# Altium integrated library National Semiconductor LDO.IntLib: 2675 symbols (part 51 of 65)
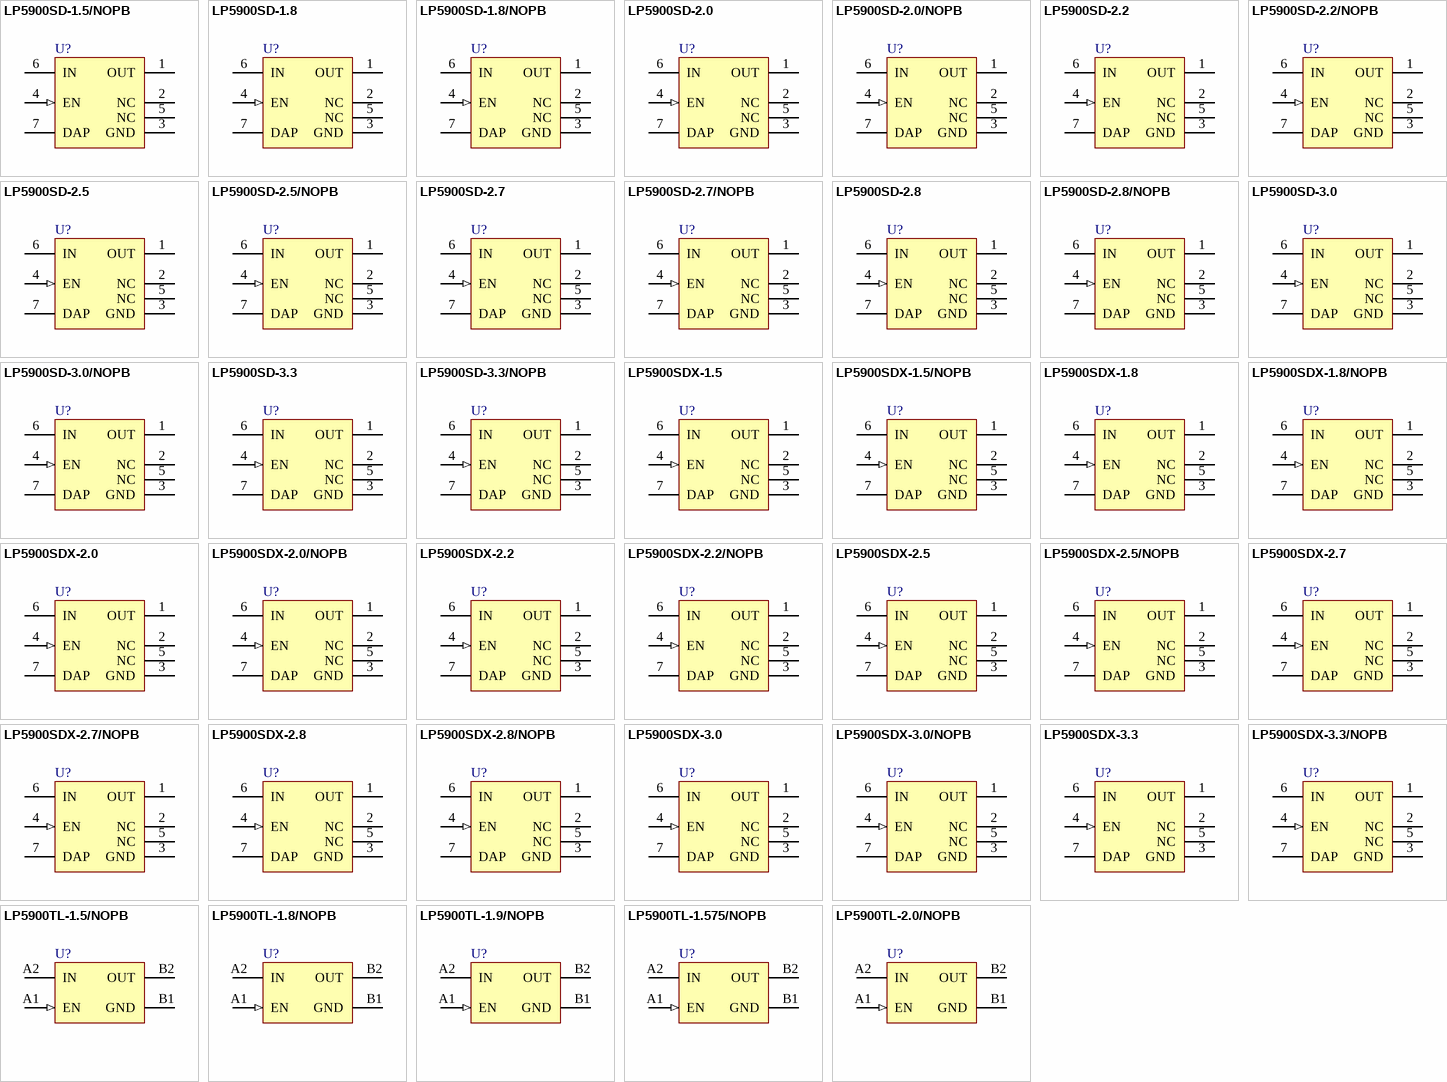
[diagram p117: symbols LP5900SD-1.5/NOPB to LP5900TL-2.0/NOPB]

## LP5900SD-2.7/NOPB
designator U?
Ultra Low Noise, 150mA Linear Regulator for RF/Analog Circuits Requires No Bypass Capacitor, 6-pin LLP, Pb-Free; PartNumber: LP5900SD-2.7/NOPB; Manufacturer: National Semiconductor; PackageTopMarking: XTT*L14; PowerWise: N; CompType: LDO IC; High-Reliability: Y; DatasheetVersion: Jul-2010; PackageVersion: revA, Nov-2003; PackageReference: SDB06A; PackageDescription: LLP, Plastic, Dual, 2.2 x 2.5 x 0.8mm Body, 6 Lead, 0.65mm Pitch, No Pullback; RoHS: Y; PinCount: 6; ComponentLink1Description: Manufacturer URL; ComponentLink1URL: http://www.national.com/; ComponentLink2Description: LP5900 Datasheet; ComponentLink2URL: http://www.national.com/ds/LP/LP5900.pdf; ComponentLink3Description: LP5900 Web Page; ComponentLink3URL: http://www.national.com/pf/LP/LP5900.html; ComponentLink4Description: SDB06A Package Page; ComponentLink4URL: http://www.national.com/packaging/folders/sdb06a.html
footprint SDB06A (SON, 6-Leads, Body 2.2x2.5mm, Pitch 0.65mm, NSC Recommended (SC-70 Land))
pins: 1 OUT (power), 2 NC, 3 GND (power), 4 EN (in), 5 NC, 6 IN (power), 7 DAP (power)

## LP5900SD-2.8
designator U?
Ultra Low Noise, 150mA Linear Regulator for RF/Analog Circuits Requires No Bypass Capacitor, 6-pin LLP; PartNumber: LP5900SD-2.8; Manufacturer: National Semiconductor; PackageTopMarking: XTT*L12; PowerWise: N; CompType: LDO IC; High-Reliability: Y; DatasheetVersion: Jul-2010; PackageVersion: revA, Nov-2003; PackageReference: SDB06A; PackageDescription: LLP, Plastic, Dual, 2.2 x 2.5 x 0.8mm Body, 6 Lead, 0.65mm Pitch, No Pullback; RoHS: N; PinCount: 6; ComponentLink1Description: Manufacturer URL; ComponentLink1URL: http://www.national.com/; ComponentLink2Description: LP5900 Datasheet; ComponentLink2URL: http://www.national.com/ds/LP/LP5900.pdf; ComponentLink3Description: LP5900 Web Page; ComponentLink3URL: http://www.national.com/pf/LP/LP5900.html; ComponentLink4Description: SDB06A Package Page; ComponentLink4URL: http://www.national.com/packaging/folders/sdb06a.html
footprint SDB06A (SON, 6-Leads, Body 2.2x2.5mm, Pitch 0.65mm, NSC Recommended (SC-70 Land))
pins: 1 OUT (power), 2 NC, 3 GND (power), 4 EN (in), 5 NC, 6 IN (power), 7 DAP (power)

## LP5900SD-2.8/NOPB
designator U?
Ultra Low Noise, 150mA Linear Regulator for RF/Analog Circuits Requires No Bypass Capacitor, 6-pin LLP, Pb-Free; PartNumber: LP5900SD-2.8/NOPB; Manufacturer: National Semiconductor; PackageTopMarking: XTT*L12; PowerWise: N; CompType: LDO IC; High-Reliability: Y; DatasheetVersion: Jul-2010; PackageVersion: revA, Nov-2003; PackageReference: SDB06A; PackageDescription: LLP, Plastic, Dual, 2.2 x 2.5 x 0.8mm Body, 6 Lead, 0.65mm Pitch, No Pullback; RoHS: Y; PinCount: 6; ComponentLink1Description: Manufacturer URL; ComponentLink1URL: http://www.national.com/; ComponentLink2Description: LP5900 Datasheet; ComponentLink2URL: http://www.national.com/ds/LP/LP5900.pdf; ComponentLink3Description: LP5900 Web Page; ComponentLink3URL: http://www.national.com/pf/LP/LP5900.html; ComponentLink4Description: SDB06A Package Page; ComponentLink4URL: http://www.national.com/packaging/folders/sdb06a.html
footprint SDB06A (SON, 6-Leads, Body 2.2x2.5mm, Pitch 0.65mm, NSC Recommended (SC-70 Land))
pins: 1 OUT (power), 2 NC, 3 GND (power), 4 EN (in), 5 NC, 6 IN (power), 7 DAP (power)

## LP5900SD-3.0
designator U?
Ultra Low Noise, 150mA Linear Regulator for RF/Analog Circuits Requires No Bypass Capacitor, 6-pin LLP; PartNumber: LP5900SD-3.0; Manufacturer: National Semiconductor; PackageTopMarking: XTT*L20; PowerWise: N; CompType: LDO IC; High-Reliability: Y; DatasheetVersion: Jul-2010; PackageVersion: revA, Nov-2003; PackageReference: SDB06A; PackageDescription: LLP, Plastic, Dual, 2.2 x 2.5 x 0.8mm Body, 6 Lead, 0.65mm Pitch, No Pullback; RoHS: Y; PinCount: 6; ComponentLink1Description: Manufacturer URL; ComponentLink1URL: http://www.national.com/; ComponentLink2Description: LP5900 Datasheet; ComponentLink2URL: http://www.national.com/ds/LP/LP5900.pdf; ComponentLink3Description: LP5900 Web Page; ComponentLink3URL: http://www.national.com/pf/LP/LP5900.html; ComponentLink4Description: SDB06A Package Page; ComponentLink4URL: http://www.national.com/packaging/folders/sdb06a.html
footprint SDB06A (SON, 6-Leads, Body 2.2x2.5mm, Pitch 0.65mm, NSC Recommended (SC-70 Land))
pins: 1 OUT (power), 2 NC, 3 GND (power), 4 EN (in), 5 NC, 6 IN (power), 7 DAP (power)

## LP5900SD-3.0/NOPB
designator U?
Ultra Low Noise, 150mA Linear Regulator for RF/Analog Circuits Requires No Bypass Capacitor, 6-pin LLP, Pb-Free; PartNumber: LP5900SD-3.0/NOPB; Manufacturer: National Semiconductor; PackageTopMarking: XTT*L20; PowerWise: N; CompType: LDO IC; High-Reliability: Y; DatasheetVersion: Jul-2010; PackageVersion: revA, Nov-2003; PackageReference: SDB06A; PackageDescription: LLP, Plastic, Dual, 2.2 x 2.5 x 0.8mm Body, 6 Lead, 0.65mm Pitch, No Pullback; RoHS: Y; PinCount: 6; ComponentLink1Description: Manufacturer URL; ComponentLink1URL: http://www.national.com/; ComponentLink2Description: LP5900 Datasheet; ComponentLink2URL: http://www.national.com/ds/LP/LP5900.pdf; ComponentLink3Description: LP5900 Web Page; ComponentLink3URL: http://www.national.com/pf/LP/LP5900.html; ComponentLink4Description: SDB06A Package Page; ComponentLink4URL: http://www.national.com/packaging/folders/sdb06a.html
footprint SDB06A (SON, 6-Leads, Body 2.2x2.5mm, Pitch 0.65mm, NSC Recommended (SC-70 Land))
pins: 1 OUT (power), 2 NC, 3 GND (power), 4 EN (in), 5 NC, 6 IN (power), 7 DAP (power)

## LP5900SD-3.3
designator U?
Ultra Low Noise, 150mA Linear Regulator for RF/Analog Circuits Requires No Bypass Capacitor, 6-pin LLP; PartNumber: LP5900SD-3.3; Manufacturer: National Semiconductor; PackageTopMarking: XTT*L16; PowerWise: N; CompType: LDO IC; High-Reliability: Y; DatasheetVersion: Jul-2010; PackageVersion: revA, Nov-2003; PackageReference: SDB06A; PackageDescription: LLP, Plastic, Dual, 2.2 x 2.5 x 0.8mm Body, 6 Lead, 0.65mm Pitch, No Pullback; RoHS: Y; PinCount: 6; ComponentLink1Description: Manufacturer URL; ComponentLink1URL: http://www.national.com/; ComponentLink2Description: LP5900 Datasheet; ComponentLink2URL: http://www.national.com/ds/LP/LP5900.pdf; ComponentLink3Description: LP5900 Web Page; ComponentLink3URL: http://www.national.com/pf/LP/LP5900.html; ComponentLink4Description: SDB06A Package Page; ComponentLink4URL: http://www.national.com/packaging/folders/sdb06a.html
footprint SDB06A (SON, 6-Leads, Body 2.2x2.5mm, Pitch 0.65mm, NSC Recommended (SC-70 Land))
pins: 1 OUT (power), 2 NC, 3 GND (power), 4 EN (in), 5 NC, 6 IN (power), 7 DAP (power)

## LP5900SD-3.3/NOPB
designator U?
Ultra Low Noise, 150mA Linear Regulator for RF/Analog Circuits Requires No Bypass Capacitor, 6-pin LLP, Pb-Free; PartNumber: LP5900SD-3.3/NOPB; Manufacturer: National Semiconductor; PackageTopMarking: XTT*L16; PowerWise: N; CompType: LDO IC; High-Reliability: Y; DatasheetVersion: Jul-2010; PackageVersion: revA, Nov-2003; PackageReference: SDB06A; PackageDescription: LLP, Plastic, Dual, 2.2 x 2.5 x 0.8mm Body, 6 Lead, 0.65mm Pitch, No Pullback; RoHS: Y; PinCount: 6; ComponentLink1Description: Manufacturer URL; ComponentLink1URL: http://www.national.com/; ComponentLink2Description: LP5900 Datasheet; ComponentLink2URL: http://www.national.com/ds/LP/LP5900.pdf; ComponentLink3Description: LP5900 Web Page; ComponentLink3URL: http://www.national.com/pf/LP/LP5900.html; ComponentLink4Description: SDB06A Package Page; ComponentLink4URL: http://www.national.com/packaging/folders/sdb06a.html
footprint SDB06A (SON, 6-Leads, Body 2.2x2.5mm, Pitch 0.65mm, NSC Recommended (SC-70 Land))
pins: 1 OUT (power), 2 NC, 3 GND (power), 4 EN (in), 5 NC, 6 IN (power), 7 DAP (power)

## LP5900SDX-1.5
designator U?
Ultra Low Noise, 150mA Linear Regulator for RF/Analog Circuits Requires No Bypass Capacitor, 6-pin LLP; PartNumber: LP5900SDX-1.5; Manufacturer: National Semiconductor; PackageTopMarking: XTT*L15; PowerWise: N; CompType: LDO IC; High-Reliability: Y; DatasheetVersion: Jul-2010; PackageVersion: revA, Nov-2003; PackageReference: SDB06A; PackageDescription: LLP, Plastic, Dual, 2.2 x 2.5 x 0.8mm Body, 6 Lead, 0.65mm Pitch, No Pullback; RoHS: N; PinCount: 6; ComponentLink1Description: Manufacturer URL; ComponentLink1URL: http://www.national.com/; ComponentLink2Description: LP5900 Datasheet; ComponentLink2URL: http://www.national.com/ds/LP/LP5900.pdf; ComponentLink3Description: LP5900 Web Page; ComponentLink3URL: http://www.national.com/pf/LP/LP5900.html; ComponentLink4Description: SDB06A Package Page; ComponentLink4URL: http://www.national.com/packaging/folders/sdb06a.html
footprint SDB06A (SON, 6-Leads, Body 2.2x2.5mm, Pitch 0.65mm, NSC Recommended (SC-70 Land))
pins: 1 OUT (power), 2 NC, 3 GND (power), 4 EN (in), 5 NC, 6 IN (power), 7 DAP (power)

## LP5900SDX-1.5/NOPB
designator U?
Ultra Low Noise, 150mA Linear Regulator for RF/Analog Circuits Requires No Bypass Capacitor, 6-pin LLP, Pb-Free; PartNumber: LP5900SDX-1.5/NOPB; Manufacturer: National Semiconductor; PackageTopMarking: XTT*L15; PowerWise: N; CompType: LDO IC; High-Reliability: Y; DatasheetVersion: Jul-2010; PackageVersion: revA, Nov-2003; PackageReference: SDB06A; PackageDescription: LLP, Plastic, Dual, 2.2 x 2.5 x 0.8mm Body, 6 Lead, 0.65mm Pitch, No Pullback; RoHS: Y; PinCount: 6; ComponentLink1Description: Manufacturer URL; ComponentLink1URL: http://www.national.com/; ComponentLink2Description: LP5900 Datasheet; ComponentLink2URL: http://www.national.com/ds/LP/LP5900.pdf; ComponentLink3Description: LP5900 Web Page; ComponentLink3URL: http://www.national.com/pf/LP/LP5900.html; ComponentLink4Description: SDB06A Package Page; ComponentLink4URL: http://www.national.com/packaging/folders/sdb06a.html
footprint SDB06A (SON, 6-Leads, Body 2.2x2.5mm, Pitch 0.65mm, NSC Recommended (SC-70 Land))
pins: 1 OUT (power), 2 NC, 3 GND (power), 4 EN (in), 5 NC, 6 IN (power), 7 DAP (power)

## LP5900SDX-1.8
designator U?
Ultra Low Noise, 150mA Linear Regulator for RF/Analog Circuits Requires No Bypass Capacitor, 6-pin LLP; PartNumber: LP5900SDX-1.8; Manufacturer: National Semiconductor; PackageTopMarking: XTT*L17; PowerWise: N; CompType: LDO IC; High-Reliability: Y; DatasheetVersion: Jul-2010; PackageVersion: revA, Nov-2003; PackageReference: SDB06A; PackageDescription: LLP, Plastic, Dual, 2.2 x 2.5 x 0.8mm Body, 6 Lead, 0.65mm Pitch, No Pullback; RoHS: N; PinCount: 6; ComponentLink1Description: Manufacturer URL; ComponentLink1URL: http://www.national.com/; ComponentLink2Description: LP5900 Datasheet; ComponentLink2URL: http://www.national.com/ds/LP/LP5900.pdf; ComponentLink3Description: LP5900 Web Page; ComponentLink3URL: http://www.national.com/pf/LP/LP5900.html; ComponentLink4Description: SDB06A Package Page; ComponentLink4URL: http://www.national.com/packaging/folders/sdb06a.html
footprint SDB06A (SON, 6-Leads, Body 2.2x2.5mm, Pitch 0.65mm, NSC Recommended (SC-70 Land))
pins: 1 OUT (power), 2 NC, 3 GND (power), 4 EN (in), 5 NC, 6 IN (power), 7 DAP (power)

## LP5900SDX-1.8/NOPB
designator U?
Ultra Low Noise, 150mA Linear Regulator for RF/Analog Circuits Requires No Bypass Capacitor, 6-pin LLP, Pb-Free; PartNumber: LP5900SDX-1.8/NOPB; Manufacturer: National Semiconductor; PackageTopMarking: XTT*L17; PowerWise: N; CompType: LDO IC; High-Reliability: Y; DatasheetVersion: Jul-2010; PackageVersion: revA, Nov-2003; PackageReference: SDB06A; PackageDescription: LLP, Plastic, Dual, 2.2 x 2.5 x 0.8mm Body, 6 Lead, 0.65mm Pitch, No Pullback; RoHS: Y; PinCount: 6; ComponentLink1Description: Manufacturer URL; ComponentLink1URL: http://www.national.com/; ComponentLink2Description: LP5900 Datasheet; ComponentLink2URL: http://www.national.com/ds/LP/LP5900.pdf; ComponentLink3Description: LP5900 Web Page; ComponentLink3URL: http://www.national.com/pf/LP/LP5900.html; ComponentLink4Description: SDB06A Package Page; ComponentLink4URL: http://www.national.com/packaging/folders/sdb06a.html
footprint SDB06A (SON, 6-Leads, Body 2.2x2.5mm, Pitch 0.65mm, NSC Recommended (SC-70 Land))
pins: 1 OUT (power), 2 NC, 3 GND (power), 4 EN (in), 5 NC, 6 IN (power), 7 DAP (power)

## LP5900SDX-2.0
designator U?
Ultra Low Noise, 150mA Linear Regulator for RF/Analog Circuits Requires No Bypass Capacitor, 6-pin LLP; PartNumber: LP5900SDX-2.0; Manufacturer: National Semiconductor; PackageTopMarking: XTT*L18; PowerWise: N; CompType: LDO IC; High-Reliability: Y; DatasheetVersion: Jul-2010; PackageVersion: revA, Nov-2003; PackageReference: SDB06A; PackageDescription: LLP, Plastic, Dual, 2.2 x 2.5 x 0.8mm Body, 6 Lead, 0.65mm Pitch, No Pullback; RoHS: N; PinCount: 6; ComponentLink1Description: Manufacturer URL; ComponentLink1URL: http://www.national.com/; ComponentLink2Description: LP5900 Datasheet; ComponentLink2URL: http://www.national.com/ds/LP/LP5900.pdf; ComponentLink3Description: LP5900 Web Page; ComponentLink3URL: http://www.national.com/pf/LP/LP5900.html; ComponentLink4Description: SDB06A Package Page; ComponentLink4URL: http://www.national.com/packaging/folders/sdb06a.html
footprint SDB06A (SON, 6-Leads, Body 2.2x2.5mm, Pitch 0.65mm, NSC Recommended (SC-70 Land))
pins: 1 OUT (power), 2 NC, 3 GND (power), 4 EN (in), 5 NC, 6 IN (power), 7 DAP (power)

## LP5900SDX-2.0/NOPB
designator U?
Ultra Low Noise, 150mA Linear Regulator for RF/Analog Circuits Requires No Bypass Capacitor, 6-pin LLP, Pb-Free; PartNumber: LP5900SDX-2.0/NOPB; Manufacturer: National Semiconductor; PackageTopMarking: XTT*L18; PowerWise: N; CompType: LDO IC; High-Reliability: Y; DatasheetVersion: Jul-2010; PackageVersion: revA, Nov-2003; PackageReference: SDB06A; PackageDescription: LLP, Plastic, Dual, 2.2 x 2.5 x 0.8mm Body, 6 Lead, 0.65mm Pitch, No Pullback; RoHS: Y; PinCount: 6; ComponentLink1Description: Manufacturer URL; ComponentLink1URL: http://www.national.com/; ComponentLink2Description: LP5900 Datasheet; ComponentLink2URL: http://www.national.com/ds/LP/LP5900.pdf; ComponentLink3Description: LP5900 Web Page; ComponentLink3URL: http://www.national.com/pf/LP/LP5900.html; ComponentLink4Description: SDB06A Package Page; ComponentLink4URL: http://www.national.com/packaging/folders/sdb06a.html
footprint SDB06A (SON, 6-Leads, Body 2.2x2.5mm, Pitch 0.65mm, NSC Recommended (SC-70 Land))
pins: 1 OUT (power), 2 NC, 3 GND (power), 4 EN (in), 5 NC, 6 IN (power), 7 DAP (power)

## LP5900SDX-2.2
designator U?
Ultra Low Noise, 150mA Linear Regulator for RF/Analog Circuits Requires No Bypass Capacitor, 6-pin LLP; PartNumber: LP5900SDX-2.2; Manufacturer: National Semiconductor; PackageTopMarking: XTT*L19; PowerWise: N; CompType: LDO IC; High-Reliability: Y; DatasheetVersion: Jul-2010; PackageVersion: revA, Nov-2003; PackageReference: SDB06A; PackageDescription: LLP, Plastic, Dual, 2.2 x 2.5 x 0.8mm Body, 6 Lead, 0.65mm Pitch, No Pullback; RoHS: N; PinCount: 6; ComponentLink1Description: Manufacturer URL; ComponentLink1URL: http://www.national.com/; ComponentLink2Description: LP5900 Datasheet; ComponentLink2URL: http://www.national.com/ds/LP/LP5900.pdf; ComponentLink3Description: LP5900 Web Page; ComponentLink3URL: http://www.national.com/pf/LP/LP5900.html; ComponentLink4Description: SDB06A Package Page; ComponentLink4URL: http://www.national.com/packaging/folders/sdb06a.html
footprint SDB06A (SON, 6-Leads, Body 2.2x2.5mm, Pitch 0.65mm, NSC Recommended (SC-70 Land))
pins: 1 OUT (power), 2 NC, 3 GND (power), 4 EN (in), 5 NC, 6 IN (power), 7 DAP (power)

## LP5900SDX-2.2/NOPB
designator U?
Ultra Low Noise, 150mA Linear Regulator for RF/Analog Circuits Requires No Bypass Capacitor, 6-pin LLP, Pb-Free; PartNumber: LP5900SDX-2.2/NOPB; Manufacturer: National Semiconductor; PackageTopMarking: XTT*L19; PowerWise: N; CompType: LDO IC; High-Reliability: Y; DatasheetVersion: Jul-2010; PackageVersion: revA, Nov-2003; PackageReference: SDB06A; PackageDescription: LLP, Plastic, Dual, 2.2 x 2.5 x 0.8mm Body, 6 Lead, 0.65mm Pitch, No Pullback; RoHS: Y; PinCount: 6; ComponentLink1Description: Manufacturer URL; ComponentLink1URL: http://www.national.com/; ComponentLink2Description: LP5900 Datasheet; ComponentLink2URL: http://www.national.com/ds/LP/LP5900.pdf; ComponentLink3Description: LP5900 Web Page; ComponentLink3URL: http://www.national.com/pf/LP/LP5900.html; ComponentLink4Description: SDB06A Package Page; ComponentLink4URL: http://www.national.com/packaging/folders/sdb06a.html
footprint SDB06A (SON, 6-Leads, Body 2.2x2.5mm, Pitch 0.65mm, NSC Recommended (SC-70 Land))
pins: 1 OUT (power), 2 NC, 3 GND (power), 4 EN (in), 5 NC, 6 IN (power), 7 DAP (power)

## LP5900SDX-2.5
designator U?
Ultra Low Noise, 150mA Linear Regulator for RF/Analog Circuits Requires No Bypass Capacitor, 6-pin LLP; PartNumber: LP5900SDX-2.5; Manufacturer: National Semiconductor; PackageTopMarking: XTT*L13; PowerWise: N; CompType: LDO IC; High-Reliability: Y; DatasheetVersion: Jul-2010; PackageVersion: revA, Nov-2003; PackageReference: SDB06A; PackageDescription: LLP, Plastic, Dual, 2.2 x 2.5 x 0.8mm Body, 6 Lead, 0.65mm Pitch, No Pullback; RoHS: N; PinCount: 6; ComponentLink1Description: Manufacturer URL; ComponentLink1URL: http://www.national.com/; ComponentLink2Description: LP5900 Datasheet; ComponentLink2URL: http://www.national.com/ds/LP/LP5900.pdf; ComponentLink3Description: LP5900 Web Page; ComponentLink3URL: http://www.national.com/pf/LP/LP5900.html; ComponentLink4Description: SDB06A Package Page; ComponentLink4URL: http://www.national.com/packaging/folders/sdb06a.html
footprint SDB06A (SON, 6-Leads, Body 2.2x2.5mm, Pitch 0.65mm, NSC Recommended (SC-70 Land))
pins: 1 OUT (power), 2 NC, 3 GND (power), 4 EN (in), 5 NC, 6 IN (power), 7 DAP (power)

## LP5900SDX-2.5/NOPB
designator U?
Ultra Low Noise, 150mA Linear Regulator for RF/Analog Circuits Requires No Bypass Capacitor, 6-pin LLP, Pb-Free; PartNumber: LP5900SDX-2.5/NOPB; Manufacturer: National Semiconductor; PackageTopMarking: XTT*L13; PowerWise: N; CompType: LDO IC; High-Reliability: Y; DatasheetVersion: Jul-2010; PackageVersion: revA, Nov-2003; PackageReference: SDB06A; PackageDescription: LLP, Plastic, Dual, 2.2 x 2.5 x 0.8mm Body, 6 Lead, 0.65mm Pitch, No Pullback; RoHS: Y; PinCount: 6; ComponentLink1Description: Manufacturer URL; ComponentLink1URL: http://www.national.com/; ComponentLink2Description: LP5900 Datasheet; ComponentLink2URL: http://www.national.com/ds/LP/LP5900.pdf; ComponentLink3Description: LP5900 Web Page; ComponentLink3URL: http://www.national.com/pf/LP/LP5900.html; ComponentLink4Description: SDB06A Package Page; ComponentLink4URL: http://www.national.com/packaging/folders/sdb06a.html
footprint SDB06A (SON, 6-Leads, Body 2.2x2.5mm, Pitch 0.65mm, NSC Recommended (SC-70 Land))
pins: 1 OUT (power), 2 NC, 3 GND (power), 4 EN (in), 5 NC, 6 IN (power), 7 DAP (power)

## LP5900SDX-2.7
designator U?
Ultra Low Noise, 150mA Linear Regulator for RF/Analog Circuits Requires No Bypass Capacitor, 6-pin LLP; PartNumber: LP5900SDX-2.7; Manufacturer: National Semiconductor; PackageTopMarking: XTT*L14; PowerWise: N; CompType: LDO IC; High-Reliability: Y; DatasheetVersion: Jul-2010; PackageVersion: revA, Nov-2003; PackageReference: SDB06A; PackageDescription: LLP, Plastic, Dual, 2.2 x 2.5 x 0.8mm Body, 6 Lead, 0.65mm Pitch, No Pullback; RoHS: N; PinCount: 6; ComponentLink1Description: Manufacturer URL; ComponentLink1URL: http://www.national.com/; ComponentLink2Description: LP5900 Datasheet; ComponentLink2URL: http://www.national.com/ds/LP/LP5900.pdf; ComponentLink3Description: LP5900 Web Page; ComponentLink3URL: http://www.national.com/pf/LP/LP5900.html; ComponentLink4Description: SDB06A Package Page; ComponentLink4URL: http://www.national.com/packaging/folders/sdb06a.html
footprint SDB06A (SON, 6-Leads, Body 2.2x2.5mm, Pitch 0.65mm, NSC Recommended (SC-70 Land))
pins: 1 OUT (power), 2 NC, 3 GND (power), 4 EN (in), 5 NC, 6 IN (power), 7 DAP (power)

## LP5900SDX-2.7/NOPB
designator U?
Ultra Low Noise, 150mA Linear Regulator for RF/Analog Circuits Requires No Bypass Capacitor, 6-pin LLP, Pb-Free; PartNumber: LP5900SDX-2.7/NOPB; Manufacturer: National Semiconductor; PackageTopMarking: XTT*L14; PowerWise: N; CompType: LDO IC; High-Reliability: Y; DatasheetVersion: Jul-2010; PackageVersion: revA, Nov-2003; PackageReference: SDB06A; PackageDescription: LLP, Plastic, Dual, 2.2 x 2.5 x 0.8mm Body, 6 Lead, 0.65mm Pitch, No Pullback; RoHS: Y; PinCount: 6; ComponentLink1Description: Manufacturer URL; ComponentLink1URL: http://www.national.com/; ComponentLink2Description: LP5900 Datasheet; ComponentLink2URL: http://www.national.com/ds/LP/LP5900.pdf; ComponentLink3Description: LP5900 Web Page; ComponentLink3URL: http://www.national.com/pf/LP/LP5900.html; ComponentLink4Description: SDB06A Package Page; ComponentLink4URL: http://www.national.com/packaging/folders/sdb06a.html
footprint SDB06A (SON, 6-Leads, Body 2.2x2.5mm, Pitch 0.65mm, NSC Recommended (SC-70 Land))
pins: 1 OUT (power), 2 NC, 3 GND (power), 4 EN (in), 5 NC, 6 IN (power), 7 DAP (power)

## LP5900SDX-2.8
designator U?
Ultra Low Noise, 150mA Linear Regulator for RF/Analog Circuits Requires No Bypass Capacitor, 6-pin LLP; PartNumber: LP5900SDX-2.8; Manufacturer: National Semiconductor; PackageTopMarking: XTT*L12; PowerWise: N; CompType: LDO IC; High-Reliability: Y; DatasheetVersion: Jul-2010; PackageVersion: revA, Nov-2003; PackageReference: SDB06A; PackageDescription: LLP, Plastic, Dual, 2.2 x 2.5 x 0.8mm Body, 6 Lead, 0.65mm Pitch, No Pullback; RoHS: N; PinCount: 6; ComponentLink1Description: Manufacturer URL; ComponentLink1URL: http://www.national.com/; ComponentLink2Description: LP5900 Datasheet; ComponentLink2URL: http://www.national.com/ds/LP/LP5900.pdf; ComponentLink3Description: LP5900 Web Page; ComponentLink3URL: http://www.national.com/pf/LP/LP5900.html; ComponentLink4Description: SDB06A Package Page; ComponentLink4URL: http://www.national.com/packaging/folders/sdb06a.html
footprint SDB06A (SON, 6-Leads, Body 2.2x2.5mm, Pitch 0.65mm, NSC Recommended (SC-70 Land))
pins: 1 OUT (power), 2 NC, 3 GND (power), 4 EN (in), 5 NC, 6 IN (power), 7 DAP (power)

## LP5900SDX-2.8/NOPB
designator U?
Ultra Low Noise, 150mA Linear Regulator for RF/Analog Circuits Requires No Bypass Capacitor, 6-pin LLP, Pb-Free; PartNumber: LP5900SDX-2.8/NOPB; Manufacturer: National Semiconductor; PackageTopMarking: XTT*L12; PowerWise: N; CompType: LDO IC; High-Reliability: Y; DatasheetVersion: Jul-2010; PackageVersion: revA, Nov-2003; PackageReference: SDB06A; PackageDescription: LLP, Plastic, Dual, 2.2 x 2.5 x 0.8mm Body, 6 Lead, 0.65mm Pitch, No Pullback; RoHS: Y; PinCount: 6; ComponentLink1Description: Manufacturer URL; ComponentLink1URL: http://www.national.com/; ComponentLink2Description: LP5900 Datasheet; ComponentLink2URL: http://www.national.com/ds/LP/LP5900.pdf; ComponentLink3Description: LP5900 Web Page; ComponentLink3URL: http://www.national.com/pf/LP/LP5900.html; ComponentLink4Description: SDB06A Package Page; ComponentLink4URL: http://www.national.com/packaging/folders/sdb06a.html
footprint SDB06A (SON, 6-Leads, Body 2.2x2.5mm, Pitch 0.65mm, NSC Recommended (SC-70 Land))
pins: 1 OUT (power), 2 NC, 3 GND (power), 4 EN (in), 5 NC, 6 IN (power), 7 DAP (power)

## LP5900SDX-3.0
designator U?
Ultra Low Noise, 150mA Linear Regulator for RF/Analog Circuits Requires No Bypass Capacitor, 6-pin LLP; PartNumber: LP5900SDX-3.0; Manufacturer: National Semiconductor; PackageTopMarking: XTT*L20; PowerWise: N; CompType: LDO IC; High-Reliability: Y; DatasheetVersion: Jul-2010; PackageVersion: revA, Nov-2003; PackageReference: SDB06A; PackageDescription: LLP, Plastic, Dual, 2.2 x 2.5 x 0.8mm Body, 6 Lead, 0.65mm Pitch, No Pullback; RoHS: N; PinCount: 6; ComponentLink1Description: Manufacturer URL; ComponentLink1URL: http://www.national.com/; ComponentLink2Description: LP5900 Datasheet; ComponentLink2URL: http://www.national.com/ds/LP/LP5900.pdf; ComponentLink3Description: LP5900 Web Page; ComponentLink3URL: http://www.national.com/pf/LP/LP5900.html; ComponentLink4Description: SDB06A Package Page; ComponentLink4URL: http://www.national.com/packaging/folders/sdb06a.html
footprint SDB06A (SON, 6-Leads, Body 2.2x2.5mm, Pitch 0.65mm, NSC Recommended (SC-70 Land))
pins: 1 OUT (power), 2 NC, 3 GND (power), 4 EN (in), 5 NC, 6 IN (power), 7 DAP (power)

## LP5900SDX-3.0/NOPB
designator U?
Ultra Low Noise, 150mA Linear Regulator for RF/Analog Circuits Requires No Bypass Capacitor, 6-pin LLP, Pb-Free; PartNumber: LP5900SDX-3.0/NOPB; Manufacturer: National Semiconductor; PackageTopMarking: XTT*L20; PowerWise: N; CompType: LDO IC; High-Reliability: Y; DatasheetVersion: Jul-2010; PackageVersion: revA, Nov-2003; PackageReference: SDB06A; PackageDescription: LLP, Plastic, Dual, 2.2 x 2.5 x 0.8mm Body, 6 Lead, 0.65mm Pitch, No Pullback; RoHS: Y; PinCount: 6; ComponentLink1Description: Manufacturer URL; ComponentLink1URL: http://www.national.com/; ComponentLink2Description: LP5900 Datasheet; ComponentLink2URL: http://www.national.com/ds/LP/LP5900.pdf; ComponentLink3Description: LP5900 Web Page; ComponentLink3URL: http://www.national.com/pf/LP/LP5900.html; ComponentLink4Description: SDB06A Package Page; ComponentLink4URL: http://www.national.com/packaging/folders/sdb06a.html
footprint SDB06A (SON, 6-Leads, Body 2.2x2.5mm, Pitch 0.65mm, NSC Recommended (SC-70 Land))
pins: 1 OUT (power), 2 NC, 3 GND (power), 4 EN (in), 5 NC, 6 IN (power), 7 DAP (power)

## LP5900SDX-3.3
designator U?
Ultra Low Noise, 150mA Linear Regulator for RF/Analog Circuits Requires No Bypass Capacitor, 6-pin LLP; PartNumber: LP5900SDX-3.3; Manufacturer: National Semiconductor; PackageTopMarking: XTT*L16; PowerWise: N; CompType: LDO IC; High-Reliability: Y; DatasheetVersion: Jul-2010; PackageVersion: revA, Nov-2003; PackageReference: SDB06A; PackageDescription: LLP, Plastic, Dual, 2.2 x 2.5 x 0.8mm Body, 6 Lead, 0.65mm Pitch, No Pullback; RoHS: N; PinCount: 6; ComponentLink1Description: Manufacturer URL; ComponentLink1URL: http://www.national.com/; ComponentLink2Description: LP5900 Datasheet; ComponentLink2URL: http://www.national.com/ds/LP/LP5900.pdf; ComponentLink3Description: LP5900 Web Page; ComponentLink3URL: http://www.national.com/pf/LP/LP5900.html; ComponentLink4Description: SDB06A Package Page; ComponentLink4URL: http://www.national.com/packaging/folders/sdb06a.html
footprint SDB06A (SON, 6-Leads, Body 2.2x2.5mm, Pitch 0.65mm, NSC Recommended (SC-70 Land))
pins: 1 OUT (power), 2 NC, 3 GND (power), 4 EN (in), 5 NC, 6 IN (power), 7 DAP (power)

## LP5900SDX-3.3/NOPB
designator U?
Ultra Low Noise, 150mA Linear Regulator for RF/Analog Circuits Requires No Bypass Capacitor, 6-pin LLP, Pb-Free; PartNumber: LP5900SDX-3.3/NOPB; Manufacturer: National Semiconductor; PackageTopMarking: XTT*L16; PowerWise: N; CompType: LDO IC; High-Reliability: Y; DatasheetVersion: Jul-2010; PackageVersion: revA, Nov-2003; PackageReference: SDB06A; PackageDescription: LLP, Plastic, Dual, 2.2 x 2.5 x 0.8mm Body, 6 Lead, 0.65mm Pitch, No Pullback; RoHS: Y; PinCount: 6; ComponentLink1Description: Manufacturer URL; ComponentLink1URL: http://www.national.com/; ComponentLink2Description: LP5900 Datasheet; ComponentLink2URL: http://www.national.com/ds/LP/LP5900.pdf; ComponentLink3Description: LP5900 Web Page; ComponentLink3URL: http://www.national.com/pf/LP/LP5900.html; ComponentLink4Description: SDB06A Package Page; ComponentLink4URL: http://www.national.com/packaging/folders/sdb06a.html
footprint SDB06A (SON, 6-Leads, Body 2.2x2.5mm, Pitch 0.65mm, NSC Recommended (SC-70 Land))
pins: 1 OUT (power), 2 NC, 3 GND (power), 4 EN (in), 5 NC, 6 IN (power), 7 DAP (power)

## LP5900TL-1.5/NOPB
designator U?
Ultra Low Noise, 150mA Linear Regulator for RF/Analog Circuits Requires No Bypass Capacitor, 4-pin Micro SMD, Pb-Free; PartNumber: LP5900TL-1.5/NOPB; Manufacturer: National Semiconductor; PackageTopMarking: X*I; PowerWise: N; CompType: LDO IC; High-Reliability: Y; DatasheetVersion: Jul-2010; PackageVersion: revD, Mar-2005; PackageReference: TLA04BCA; PackageDescription: Thin Micro SMD, 4 Bump (Large), 0.5mm Pitch; RoHS: Y; PinCount: 4; Code_JEDEC: MO-211-BA; ComponentLink1Description: Manufacturer URL; ComponentLink1URL: http://www.national.com/; ComponentLink2Description: LP5900 Datasheet; ComponentLink2URL: http://www.national.com/ds/LP/LP5900.pdf; ComponentLink3Description: LP5900 Web Page; ComponentLink3URL: http://www.national.com/pf/LP/LP5900.html; ComponentLink4Description: TLA04BCA Package Page; ComponentLink4URL: http://www.national.com/packaging/folders/tla04bca.html
footprint TLA04BCA (Micro SMD, 4-Leads, Body 1.07x1.04mm, Pitch 0.5mm, NSC Recommended)
pins: A1 EN (in), A2 IN (power), B1 GND (power), B2 OUT (power)

## LP5900TL-1.8/NOPB
designator U?
Ultra Low Noise, 150mA Linear Regulator for RF/Analog Circuits Requires No Bypass Capacitor, 4-pin Micro SMD, Pb-Free; PartNumber: LP5900TL-1.8/NOPB; Manufacturer: National Semiconductor; PackageTopMarking: X*I; PowerWise: N; CompType: LDO IC; High-Reliability: Y; DatasheetVersion: Jul-2010; PackageVersion: revD, Mar-2005; PackageReference: TLA04BCA; PackageDescription: Thin Micro SMD, 4 Bump (Large), 0.5mm Pitch; RoHS: Y; PinCount: 4; Code_JEDEC: MO-211-BA; ComponentLink1Description: Manufacturer URL; ComponentLink1URL: http://www.national.com/; ComponentLink2Description: LP5900 Datasheet; ComponentLink2URL: http://www.national.com/ds/LP/LP5900.pdf; ComponentLink3Description: LP5900 Web Page; ComponentLink3URL: http://www.national.com/pf/LP/LP5900.html; ComponentLink4Description: TLA04BCA Package Page; ComponentLink4URL: http://www.national.com/packaging/folders/tla04bca.html
footprint TLA04BCA (Micro SMD, 4-Leads, Body 1.07x1.04mm, Pitch 0.5mm, NSC Recommended)
pins: A1 EN (in), A2 IN (power), B1 GND (power), B2 OUT (power)

## LP5900TL-1.9/NOPB
designator U?
Ultra Low Noise, 150mA Linear Regulator for RF/Analog Circuits Requires No Bypass Capacitor, 4-pin Micro SMD, Pb-Free; PartNumber: LP5900TL-1.9/NOPB; Manufacturer: National Semiconductor; PackageTopMarking: X*I; PowerWise: N; CompType: LDO IC; High-Reliability: Y; DatasheetVersion: Jul-2010; PackageVersion: revD, Mar-2005; PackageReference: TLA04BCA; PackageDescription: Thin Micro SMD, 4 Bump (Large), 0.5mm Pitch; RoHS: Y; PinCount: 4; Code_JEDEC: MO-211-BA; ComponentLink1Description: Manufacturer URL; ComponentLink1URL: http://www.national.com/; ComponentLink2Description: LP5900 Datasheet; ComponentLink2URL: http://www.national.com/ds/LP/LP5900.pdf; ComponentLink3Description: LP5900 Web Page; ComponentLink3URL: http://www.national.com/pf/LP/LP5900.html; ComponentLink4Description: TLA04BCA Package Page; ComponentLink4URL: http://www.national.com/packaging/folders/tla04bca.html
footprint TLA04BCA (Micro SMD, 4-Leads, Body 1.07x1.04mm, Pitch 0.5mm, NSC Recommended)
pins: A1 EN (in), A2 IN (power), B1 GND (power), B2 OUT (power)

## LP5900TL-1.575/NOPB
designator U?
Ultra Low Noise, 150mA Linear Regulator for RF/Analog Circuits Requires No Bypass Capacitor, 4-pin Micro SMD, Pb-Free; PartNumber: LP5900TL-1.575/NOPB; Manufacturer: National Semiconductor; PackageTopMarking: X*I; PowerWise: N; CompType: LDO IC; High-Reliability: Y; DatasheetVersion: Jul-2010; PackageVersion: revD, Mar-2005; PackageReference: TLA04BCA; PackageDescription: Thin Micro SMD, 4 Bump (Large), 0.5mm Pitch; RoHS: Y; PinCount: 4; Code_JEDEC: MO-211-BA; ComponentLink1Description: Manufacturer URL; ComponentLink1URL: http://www.national.com/; ComponentLink2Description: LP5900 Datasheet; ComponentLink2URL: http://www.national.com/ds/LP/LP5900.pdf; ComponentLink3Description: LP5900 Web Page; ComponentLink3URL: http://www.national.com/pf/LP/LP5900.html; ComponentLink4Description: TLA04BCA Package Page; ComponentLink4URL: http://www.national.com/packaging/folders/tla04bca.html
footprint TLA04BCA (Micro SMD, 4-Leads, Body 1.07x1.04mm, Pitch 0.5mm, NSC Recommended)
pins: A1 EN (in), A2 IN (power), B1 GND (power), B2 OUT (power)

## LP5900TL-2.0/NOPB
designator U?
Ultra Low Noise, 150mA Linear Regulator for RF/Analog Circuits Requires No Bypass Capacitor, 4-pin Micro SMD, Pb-Free; PartNumber: LP5900TL-2.0/NOPB; Manufacturer: National Semiconductor; PackageTopMarking: X*I; PowerWise: N; CompType: LDO IC; High-Reliability: Y; DatasheetVersion: Jul-2010; PackageVersion: revD, Mar-2005; PackageReference: TLA04BCA; PackageDescription: Thin Micro SMD, 4 Bump (Large), 0.5mm Pitch; RoHS: Y; PinCount: 4; Code_JEDEC: MO-211-BA; ComponentLink1Description: Manufacturer URL; ComponentLink1URL: http://www.national.com/; ComponentLink2Description: LP5900 Datasheet; ComponentLink2URL: http://www.national.com/ds/LP/LP5900.pdf; ComponentLink3Description: LP5900 Web Page; ComponentLink3URL: http://www.national.com/pf/LP/LP5900.html; ComponentLink4Description: TLA04BCA Package Page; ComponentLink4URL: http://www.national.com/packaging/folders/tla04bca.html
footprint TLA04BCA (Micro SMD, 4-Leads, Body 1.07x1.04mm, Pitch 0.5mm, NSC Recommended)
pins: A1 EN (in), A2 IN (power), B1 GND (power), B2 OUT (power)

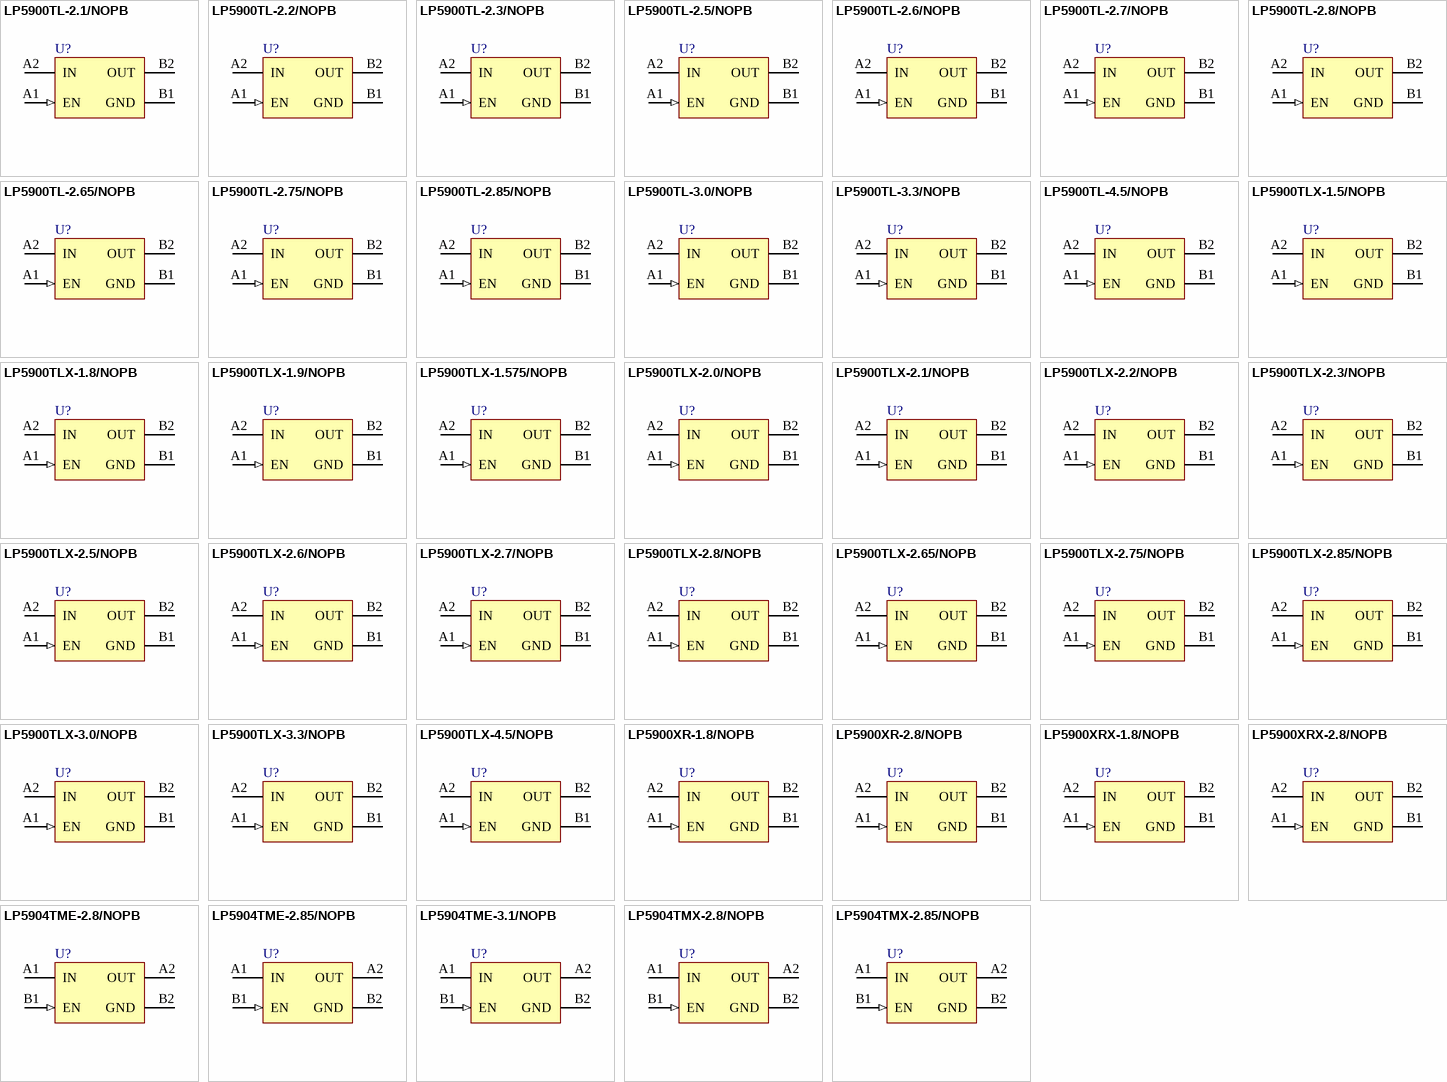
[diagram p53: symbols LP5900TL-2.1/NOPB to LP5904TMX-2.85/NOPB]

## LP5900TL-2.1/NOPB
designator U?
Ultra Low Noise, 150mA Linear Regulator for RF/Analog Circuits Requires No Bypass Capacitor, 4-pin Micro SMD, Pb-Free; PartNumber: LP5900TL-2.1/NOPB; Manufacturer: National Semiconductor; PackageTopMarking: X*I; PowerWise: N; CompType: LDO IC; High-Reliability: Y; DatasheetVersion: Jul-2010; PackageVersion: revD, Mar-2005; PackageReference: TLA04BCA; PackageDescription: Thin Micro SMD, 4 Bump (Large), 0.5mm Pitch; RoHS: Y; PinCount: 4; Code_JEDEC: MO-211-BA; ComponentLink1Description: Manufacturer URL; ComponentLink1URL: http://www.national.com/; ComponentLink2Description: LP5900 Datasheet; ComponentLink2URL: http://www.national.com/ds/LP/LP5900.pdf; ComponentLink3Description: LP5900 Web Page; ComponentLink3URL: http://www.national.com/pf/LP/LP5900.html; ComponentLink4Description: TLA04BCA Package Page; ComponentLink4URL: http://www.national.com/packaging/folders/tla04bca.html
footprint TLA04BCA (Micro SMD, 4-Leads, Body 1.07x1.04mm, Pitch 0.5mm, NSC Recommended)
pins: A1 EN (in), A2 IN (power), B1 GND (power), B2 OUT (power)

## LP5900TL-2.2/NOPB
designator U?
Ultra Low Noise, 150mA Linear Regulator for RF/Analog Circuits Requires No Bypass Capacitor, 4-pin Micro SMD, Pb-Free; PartNumber: LP5900TL-2.2/NOPB; Manufacturer: National Semiconductor; PackageTopMarking: X*I; PowerWise: N; CompType: LDO IC; High-Reliability: Y; DatasheetVersion: Jul-2010; PackageVersion: revD, Mar-2005; PackageReference: TLA04BCA; PackageDescription: Thin Micro SMD, 4 Bump (Large), 0.5mm Pitch; RoHS: Y; PinCount: 4; Code_JEDEC: MO-211-BA; ComponentLink1Description: Manufacturer URL; ComponentLink1URL: http://www.national.com/; ComponentLink2Description: LP5900 Datasheet; ComponentLink2URL: http://www.national.com/ds/LP/LP5900.pdf; ComponentLink3Description: LP5900 Web Page; ComponentLink3URL: http://www.national.com/pf/LP/LP5900.html; ComponentLink4Description: TLA04BCA Package Page; ComponentLink4URL: http://www.national.com/packaging/folders/tla04bca.html
footprint TLA04BCA (Micro SMD, 4-Leads, Body 1.07x1.04mm, Pitch 0.5mm, NSC Recommended)
pins: A1 EN (in), A2 IN (power), B1 GND (power), B2 OUT (power)

## LP5900TL-2.3/NOPB
designator U?
Ultra Low Noise, 150mA Linear Regulator for RF/Analog Circuits Requires No Bypass Capacitor, 4-pin Micro SMD, Pb-Free; PartNumber: LP5900TL-2.3/NOPB; Manufacturer: National Semiconductor; PackageTopMarking: X*I; PowerWise: N; CompType: LDO IC; High-Reliability: Y; DatasheetVersion: Jul-2010; PackageVersion: revD, Mar-2005; PackageReference: TLA04BCA; PackageDescription: Thin Micro SMD, 4 Bump (Large), 0.5mm Pitch; RoHS: Y; PinCount: 4; Code_JEDEC: MO-211-BA; ComponentLink1Description: Manufacturer URL; ComponentLink1URL: http://www.national.com/; ComponentLink2Description: LP5900 Datasheet; ComponentLink2URL: http://www.national.com/ds/LP/LP5900.pdf; ComponentLink3Description: LP5900 Web Page; ComponentLink3URL: http://www.national.com/pf/LP/LP5900.html; ComponentLink4Description: TLA04BCA Package Page; ComponentLink4URL: http://www.national.com/packaging/folders/tla04bca.html
footprint TLA04BCA (Micro SMD, 4-Leads, Body 1.07x1.04mm, Pitch 0.5mm, NSC Recommended)
pins: A1 EN (in), A2 IN (power), B1 GND (power), B2 OUT (power)

## LP5900TL-2.5/NOPB
designator U?
Ultra Low Noise, 150mA Linear Regulator for RF/Analog Circuits Requires No Bypass Capacitor, 4-pin Micro SMD, Pb-Free; PartNumber: LP5900TL-2.5/NOPB; Manufacturer: National Semiconductor; PackageTopMarking: X*I; PowerWise: N; CompType: LDO IC; High-Reliability: Y; DatasheetVersion: Jul-2010; PackageVersion: revD, Mar-2005; PackageReference: TLA04BCA; PackageDescription: Thin Micro SMD, 4 Bump (Large), 0.5mm Pitch; RoHS: Y; PinCount: 4; Code_JEDEC: MO-211-BA; ComponentLink1Description: Manufacturer URL; ComponentLink1URL: http://www.national.com/; ComponentLink2Description: LP5900 Datasheet; ComponentLink2URL: http://www.national.com/ds/LP/LP5900.pdf; ComponentLink3Description: LP5900 Web Page; ComponentLink3URL: http://www.national.com/pf/LP/LP5900.html; ComponentLink4Description: TLA04BCA Package Page; ComponentLink4URL: http://www.national.com/packaging/folders/tla04bca.html
footprint TLA04BCA (Micro SMD, 4-Leads, Body 1.07x1.04mm, Pitch 0.5mm, NSC Recommended)
pins: A1 EN (in), A2 IN (power), B1 GND (power), B2 OUT (power)

## LP5900TL-2.6/NOPB
designator U?
Ultra Low Noise, 150mA Linear Regulator for RF/Analog Circuits Requires No Bypass Capacitor, 4-pin Micro SMD, Pb-Free; PartNumber: LP5900TL-2.6/NOPB; Manufacturer: National Semiconductor; PackageTopMarking: X*I; PowerWise: N; CompType: LDO IC; High-Reliability: Y; DatasheetVersion: Jul-2010; PackageVersion: revD, Mar-2005; PackageReference: TLA04BCA; PackageDescription: Thin Micro SMD, 4 Bump (Large), 0.5mm Pitch; RoHS: Y; PinCount: 4; Code_JEDEC: MO-211-BA; ComponentLink1Description: Manufacturer URL; ComponentLink1URL: http://www.national.com/; ComponentLink2Description: LP5900 Datasheet; ComponentLink2URL: http://www.national.com/ds/LP/LP5900.pdf; ComponentLink3Description: LP5900 Web Page; ComponentLink3URL: http://www.national.com/pf/LP/LP5900.html; ComponentLink4Description: TLA04BCA Package Page; ComponentLink4URL: http://www.national.com/packaging/folders/tla04bca.html
footprint TLA04BCA (Micro SMD, 4-Leads, Body 1.07x1.04mm, Pitch 0.5mm, NSC Recommended)
pins: A1 EN (in), A2 IN (power), B1 GND (power), B2 OUT (power)

## LP5900TL-2.7/NOPB
designator U?
Ultra Low Noise, 150mA Linear Regulator for RF/Analog Circuits Requires No Bypass Capacitor, 4-pin Micro SMD, Pb-Free; PartNumber: LP5900TL-2.7/NOPB; Manufacturer: National Semiconductor; PackageTopMarking: X*I; PowerWise: N; CompType: LDO IC; High-Reliability: Y; DatasheetVersion: Jul-2010; PackageVersion: revD, Mar-2005; PackageReference: TLA04BCA; PackageDescription: Thin Micro SMD, 4 Bump (Large), 0.5mm Pitch; RoHS: Y; PinCount: 4; Code_JEDEC: MO-211-BA; ComponentLink1Description: Manufacturer URL; ComponentLink1URL: http://www.national.com/; ComponentLink2Description: LP5900 Datasheet; ComponentLink2URL: http://www.national.com/ds/LP/LP5900.pdf; ComponentLink3Description: LP5900 Web Page; ComponentLink3URL: http://www.national.com/pf/LP/LP5900.html; ComponentLink4Description: TLA04BCA Package Page; ComponentLink4URL: http://www.national.com/packaging/folders/tla04bca.html
footprint TLA04BCA (Micro SMD, 4-Leads, Body 1.07x1.04mm, Pitch 0.5mm, NSC Recommended)
pins: A1 EN (in), A2 IN (power), B1 GND (power), B2 OUT (power)

## LP5900TL-2.8/NOPB
designator U?
Ultra Low Noise, 150mA Linear Regulator for RF/Analog Circuits Requires No Bypass Capacitor, 4-pin Micro SMD, Pb-Free; PartNumber: LP5900TL-2.8/NOPB; Manufacturer: National Semiconductor; PackageTopMarking: X*I; PowerWise: N; CompType: LDO IC; High-Reliability: Y; DatasheetVersion: Jul-2010; PackageVersion: revD, Mar-2005; PackageReference: TLA04BCA; PackageDescription: Thin Micro SMD, 4 Bump (Large), 0.5mm Pitch; RoHS: Y; PinCount: 4; Code_JEDEC: MO-211-BA; ComponentLink1Description: Manufacturer URL; ComponentLink1URL: http://www.national.com/; ComponentLink2Description: LP5900 Datasheet; ComponentLink2URL: http://www.national.com/ds/LP/LP5900.pdf; ComponentLink3Description: LP5900 Web Page; ComponentLink3URL: http://www.national.com/pf/LP/LP5900.html; ComponentLink4Description: TLA04BCA Package Page; ComponentLink4URL: http://www.national.com/packaging/folders/tla04bca.html
footprint TLA04BCA (Micro SMD, 4-Leads, Body 1.07x1.04mm, Pitch 0.5mm, NSC Recommended)
pins: A1 EN (in), A2 IN (power), B1 GND (power), B2 OUT (power)

## LP5900TL-2.65/NOPB
designator U?
Ultra Low Noise, 150mA Linear Regulator for RF/Analog Circuits Requires No Bypass Capacitor, 4 pin MICRO SMD; PartNumber: LP5900TL-2.65/NOPB; Manufacturer: National Semiconductor; PackageTopMarking: X*I; PowerWise: N; CompType: LDO IC; High-Reliability: Y; DatasheetVersion: Jul-2010; PackageVersion: revD, Mar-2005; PackageReference: TLA04BCA; PackageDescription: Thin Micro SMD, 4 Bump (Large), 0.5mm Pitch; RoHS: Y; PinCount: 4; Code_JEDEC: MO-211-BA; ComponentLink1Description: Manufacturer URL; ComponentLink1URL: http://www.national.com/; ComponentLink2Description: LP5900 Datasheet; ComponentLink2URL: http://www.national.com/ds/LP/LP5900.pdf; ComponentLink3Description: LP5900 Web Page; ComponentLink3URL: http://www.national.com/pf/LP/LP5900.html; ComponentLink4Description: TLA04BCA Package Page; ComponentLink4URL: http://www.national.com/packaging/folders/tla04bca.html
footprint TLA04BCA (Micro SMD, 4-Leads, Body 1.07x1.04mm, Pitch 0.5mm, NSC Recommended)
pins: A1 EN (in), A2 IN (power), B1 GND (power), B2 OUT (power)

## LP5900TL-2.75/NOPB
designator U?
Ultra Low Noise, 150mA Linear Regulator for RF/Analog Circuits Requires No Bypass Capacitor, 4-pin Micro SMD, Pb-Free; PartNumber: LP5900TL-2.75/NOPB; Manufacturer: National Semiconductor; PackageTopMarking: X*I; PowerWise: N; CompType: LDO IC; High-Reliability: Y; DatasheetVersion: Jul-2010; PackageVersion: revD, Mar-2005; PackageReference: TLA04BCA; PackageDescription: Thin Micro SMD, 4 Bump (Large), 0.5mm Pitch; RoHS: Y; PinCount: 4; Code_JEDEC: MO-211-BA; ComponentLink1Description: Manufacturer URL; ComponentLink1URL: http://www.national.com/; ComponentLink2Description: LP5900 Datasheet; ComponentLink2URL: http://www.national.com/ds/LP/LP5900.pdf; ComponentLink3Description: LP5900 Web Page; ComponentLink3URL: http://www.national.com/pf/LP/LP5900.html; ComponentLink4Description: TLA04BCA Package Page; ComponentLink4URL: http://www.national.com/packaging/folders/tla04bca.html
footprint TLA04BCA (Micro SMD, 4-Leads, Body 1.07x1.04mm, Pitch 0.5mm, NSC Recommended)
pins: A1 EN (in), A2 IN (power), B1 GND (power), B2 OUT (power)

## LP5900TL-2.85/NOPB
designator U?
Ultra Low Noise, 150mA Linear Regulator for RF/Analog Circuits Requires No Bypass Capacitor, 4-pin Micro SMD, Pb-Free; PartNumber: LP5900TL-2.85/NOPB; Manufacturer: National Semiconductor; PackageTopMarking: X*I; PowerWise: N; CompType: LDO IC; High-Reliability: Y; DatasheetVersion: Jul-2010; PackageVersion: revD, Mar-2005; PackageReference: TLA04BCA; PackageDescription: Thin Micro SMD, 4 Bump (Large), 0.5mm Pitch; RoHS: Y; PinCount: 4; Code_JEDEC: MO-211-BA; ComponentLink1Description: Manufacturer URL; ComponentLink1URL: http://www.national.com/; ComponentLink2Description: LP5900 Datasheet; ComponentLink2URL: http://www.national.com/ds/LP/LP5900.pdf; ComponentLink3Description: LP5900 Web Page; ComponentLink3URL: http://www.national.com/pf/LP/LP5900.html; ComponentLink4Description: TLA04BCA Package Page; ComponentLink4URL: http://www.national.com/packaging/folders/tla04bca.html
footprint TLA04BCA (Micro SMD, 4-Leads, Body 1.07x1.04mm, Pitch 0.5mm, NSC Recommended)
pins: A1 EN (in), A2 IN (power), B1 GND (power), B2 OUT (power)

## LP5900TL-3.0/NOPB
designator U?
Ultra Low Noise, 150mA Linear Regulator for RF/Analog Circuits Requires No Bypass Capacitor, 4-pin Micro SMD, Pb-Free; PartNumber: LP5900TL-3.0/NOPB; Manufacturer: National Semiconductor; PackageTopMarking: X*I; PowerWise: N; CompType: LDO IC; High-Reliability: Y; DatasheetVersion: Jul-2010; PackageVersion: revD, Mar-2005; PackageReference: TLA04BCA; PackageDescription: Thin Micro SMD, 4 Bump (Large), 0.5mm Pitch; RoHS: Y; PinCount: 4; Code_JEDEC: MO-211-BA; ComponentLink1Description: Manufacturer URL; ComponentLink1URL: http://www.national.com/; ComponentLink2Description: LP5900 Datasheet; ComponentLink2URL: http://www.national.com/ds/LP/LP5900.pdf; ComponentLink3Description: LP5900 Web Page; ComponentLink3URL: http://www.national.com/pf/LP/LP5900.html; ComponentLink4Description: TLA04BCA Package Page; ComponentLink4URL: http://www.national.com/packaging/folders/tla04bca.html
footprint TLA04BCA (Micro SMD, 4-Leads, Body 1.07x1.04mm, Pitch 0.5mm, NSC Recommended)
pins: A1 EN (in), A2 IN (power), B1 GND (power), B2 OUT (power)

## LP5900TL-3.3/NOPB
designator U?
Ultra Low Noise, 150mA Linear Regulator for RF/Analog Circuits Requires No Bypass Capacitor, 4-pin Micro SMD, Pb-Free; PartNumber: LP5900TL-3.3/NOPB; Manufacturer: National Semiconductor; PackageTopMarking: X*I; PowerWise: N; CompType: LDO IC; High-Reliability: Y; DatasheetVersion: Jul-2010; PackageVersion: revD, Mar-2005; PackageReference: TLA04BCA; PackageDescription: Thin Micro SMD, 4 Bump (Large), 0.5mm Pitch; RoHS: Y; PinCount: 4; Code_JEDEC: MO-211-BA; ComponentLink1Description: Manufacturer URL; ComponentLink1URL: http://www.national.com/; ComponentLink2Description: LP5900 Datasheet; ComponentLink2URL: http://www.national.com/ds/LP/LP5900.pdf; ComponentLink3Description: LP5900 Web Page; ComponentLink3URL: http://www.national.com/pf/LP/LP5900.html; ComponentLink4Description: TLA04BCA Package Page; ComponentLink4URL: http://www.national.com/packaging/folders/tla04bca.html
footprint TLA04BCA (Micro SMD, 4-Leads, Body 1.07x1.04mm, Pitch 0.5mm, NSC Recommended)
pins: A1 EN (in), A2 IN (power), B1 GND (power), B2 OUT (power)

## LP5900TL-4.5/NOPB
designator U?
Ultra Low Noise, 150mA Linear Regulator for RF/Analog Circuits Requires No Bypass Capacitor, 4-pin Micro SMD, Pb-Free; PartNumber: LP5900TL-4.5/NOPB; Manufacturer: National Semiconductor; PackageTopMarking: X*I; PowerWise: N; CompType: LDO IC; High-Reliability: Y; DatasheetVersion: Jul-2010; PackageVersion: revD, Mar-2005; PackageReference: TLA04BCA; PackageDescription: Thin Micro SMD, 4 Bump (Large), 0.5mm Pitch; RoHS: Y; PinCount: 4; Code_JEDEC: MO-211-BA; ComponentLink1Description: Manufacturer URL; ComponentLink1URL: http://www.national.com/; ComponentLink2Description: LP5900 Datasheet; ComponentLink2URL: http://www.national.com/ds/LP/LP5900.pdf; ComponentLink3Description: LP5900 Web Page; ComponentLink3URL: http://www.national.com/pf/LP/LP5900.html; ComponentLink4Description: TLA04BCA Package Page; ComponentLink4URL: http://www.national.com/packaging/folders/tla04bca.html
footprint TLA04BCA (Micro SMD, 4-Leads, Body 1.07x1.04mm, Pitch 0.5mm, NSC Recommended)
pins: A1 EN (in), A2 IN (power), B1 GND (power), B2 OUT (power)

## LP5900TLX-1.5/NOPB
designator U?
Ultra Low Noise, 150mA Linear Regulator for RF/Analog Circuits Requires No Bypass Capacitor, 4-pin Micro SMD, Pb-Free; PartNumber: LP5900TLX-1.5/NOPB; Manufacturer: National Semiconductor; PackageTopMarking: X*I; PowerWise: N; CompType: LDO IC; High-Reliability: Y; DatasheetVersion: Jul-2010; PackageVersion: revD, Mar-2005; PackageReference: TLA04BCA; PackageDescription: Thin Micro SMD, 4 Bump (Large), 0.5mm Pitch; RoHS: Y; PinCount: 4; Code_JEDEC: MO-211-BA; ComponentLink1Description: Manufacturer URL; ComponentLink1URL: http://www.national.com/; ComponentLink2Description: LP5900 Datasheet; ComponentLink2URL: http://www.national.com/ds/LP/LP5900.pdf; ComponentLink3Description: LP5900 Web Page; ComponentLink3URL: http://www.national.com/pf/LP/LP5900.html; ComponentLink4Description: TLA04BCA Package Page; ComponentLink4URL: http://www.national.com/packaging/folders/tla04bca.html
footprint TLA04BCA (Micro SMD, 4-Leads, Body 1.07x1.04mm, Pitch 0.5mm, NSC Recommended)
pins: A1 EN (in), A2 IN (power), B1 GND (power), B2 OUT (power)

## LP5900TLX-1.8/NOPB
designator U?
Ultra Low Noise, 150mA Linear Regulator for RF/Analog Circuits Requires No Bypass Capacitor, 4-pin Micro SMD, Pb-Free; PartNumber: LP5900TLX-1.8/NOPB; Manufacturer: National Semiconductor; PackageTopMarking: X*I; PowerWise: N; CompType: LDO IC; High-Reliability: Y; DatasheetVersion: Jul-2010; PackageVersion: revD, Mar-2005; PackageReference: TLA04BCA; PackageDescription: Thin Micro SMD, 4 Bump (Large), 0.5mm Pitch; RoHS: Y; PinCount: 4; Code_JEDEC: MO-211-BA; ComponentLink1Description: Manufacturer URL; ComponentLink1URL: http://www.national.com/; ComponentLink2Description: LP5900 Datasheet; ComponentLink2URL: http://www.national.com/ds/LP/LP5900.pdf; ComponentLink3Description: LP5900 Web Page; ComponentLink3URL: http://www.national.com/pf/LP/LP5900.html; ComponentLink4Description: TLA04BCA Package Page; ComponentLink4URL: http://www.national.com/packaging/folders/tla04bca.html
footprint TLA04BCA (Micro SMD, 4-Leads, Body 1.07x1.04mm, Pitch 0.5mm, NSC Recommended)
pins: A1 EN (in), A2 IN (power), B1 GND (power), B2 OUT (power)